# Altium footprint library Lib1.PcbLib: 70 footprints (part 2 of 5)
Each footprint in its own frame and in the unit in brackets; x right, y up, seen from the top. Pads: shape width x height; smd on the part's side, far side on the other; paste and mask are expansions set on the pad; w line width, h text height; cw(c..) or ccw(c..) is an arc to the next point about the centre after c.
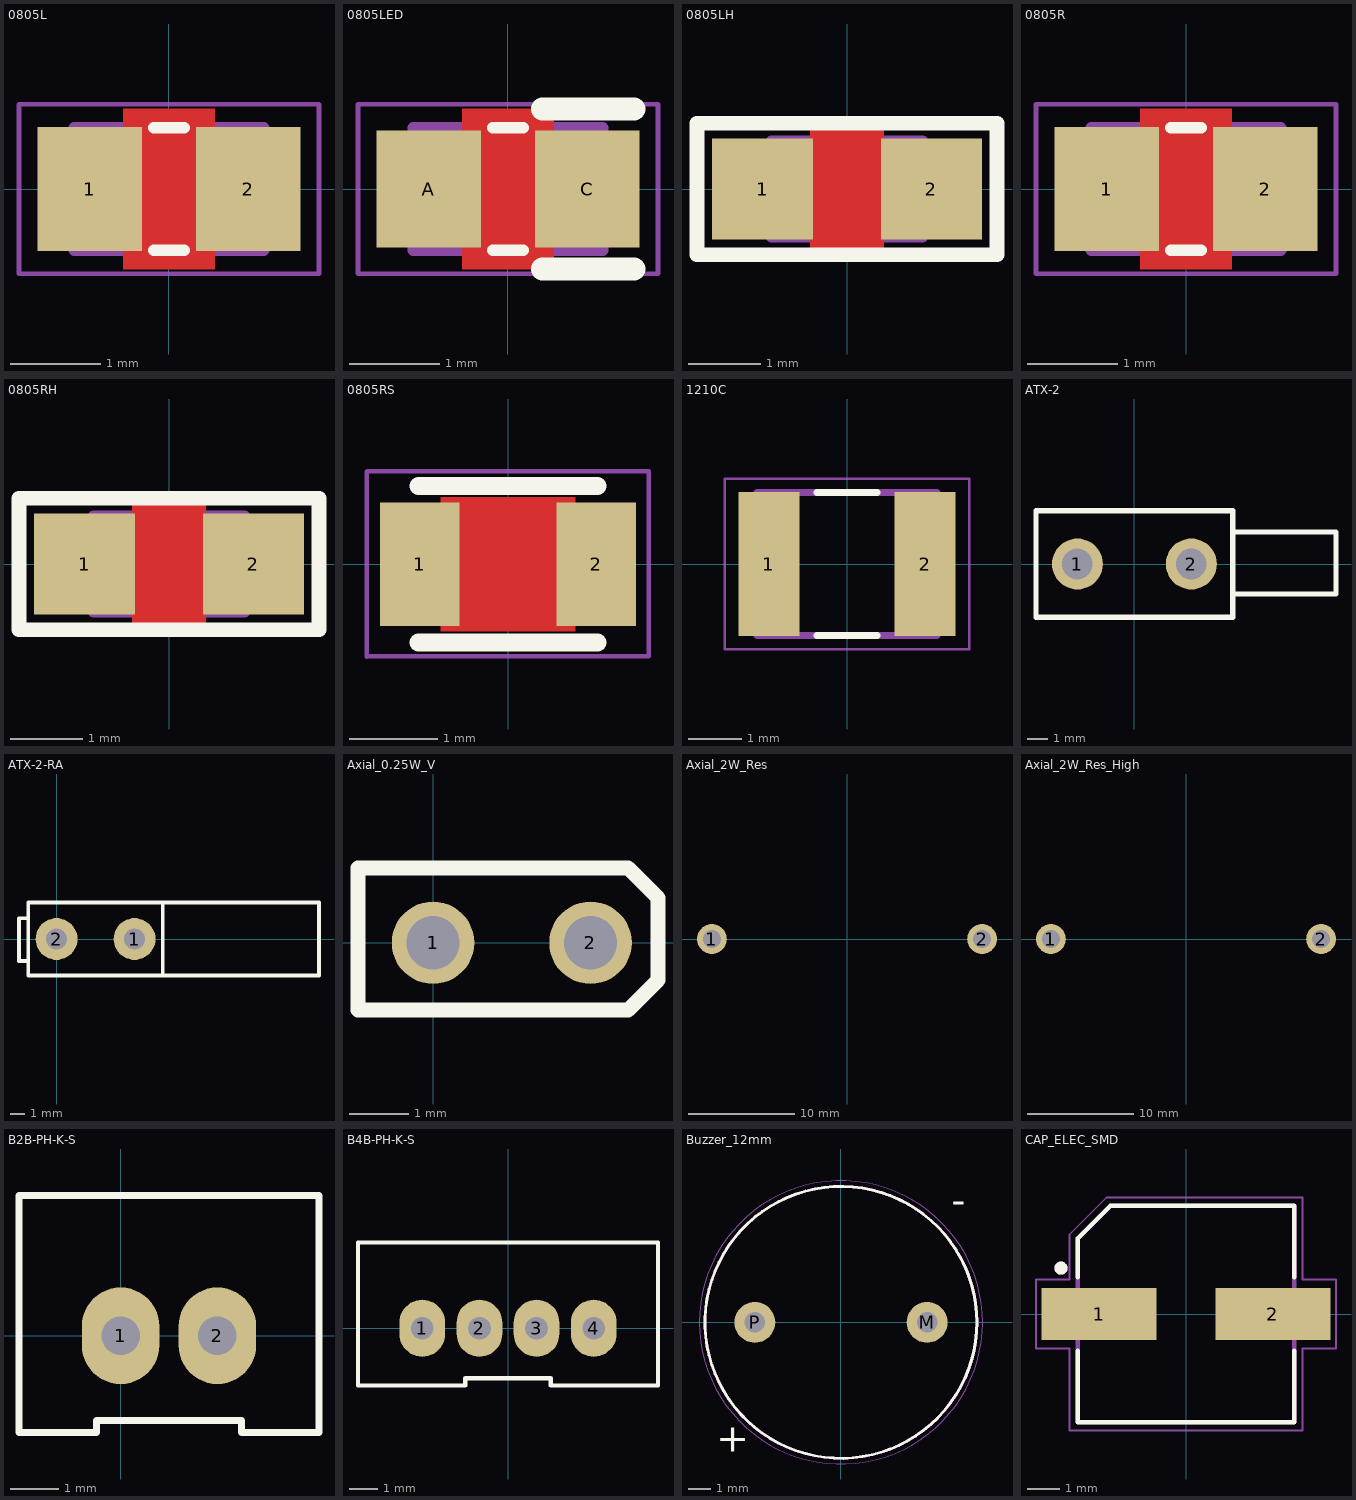
[diagram p1: the footprints below, top view; thin cyan lines are the x and y axes]

## 0805L [mm] "Standard 0805 Inductor"
pads (2):
  rect 1.16x1.38 smd: 1(-0.88,0) 2(0.88,0)
Top Layer:
  pour cut-out: 0.508,0.889 -0.508,0.889 -0.508,-0.889 0.508,-0.889
Top Overlay:
  lines w0.127: -0.17,-0.68 0.17,-0.68 ; -0.17,0.68 0.17,0.68
Mechanical 13:
  lines w0.127: -1.05,-0.68 1.05,-0.68 1.05,0.68 -1.05,0.68 -1.05,-0.68
Mechanical 15:
  lines w0.05: -1.665,-0.94 1.665,-0.94 1.665,0.94 -1.665,0.94 -1.665,-0.94
3D body "AIML-0805-1R0K-T.STEP": height 1.05, standoff 0, extent -1,-0.625 1,0.625

## 0805LED [mm]
pads (2):
  rect 1.16x1.3 smd: A(-0.88,0) C(0.88,0)
Top Layer:
  pour cut-out: 0.508,0.889 -0.508,0.889 -0.508,-0.889 0.508,-0.889
Top Overlay:
  lines w0.127: -0.17,-0.68 0.17,-0.68 ; -0.17,0.68 0.17,0.68
  lines w0.254: 0.381,-0.889 1.397,-0.889 ; 0.381,0.889 1.397,0.889
Mechanical 13:
  lines w0.127: -1.05,-0.68 1.05,-0.68 1.05,0.68 -1.05,0.68 -1.05,-0.68
Mechanical 15:
  lines w0.05: -1.665,-0.94 1.665,-0.94 1.665,0.94 -1.665,0.94 -1.665,-0.94
3D body "step_temp.STEP": height 0.73, standoff 0, extent -1.003,-0.622 1.003,0.622

## 0805LH [mm]
pads (2):
  rect 1.4x1.4 smd: 1(-1.17,0) 2(1.17,0)
Top Layer:
  pour cut-out: 0.508,0.889 -0.508,0.889 -0.508,-0.889 0.508,-0.889
Top Overlay:
  lines w0.203: -2.079,-0.909 -2.079,0.909 2.079,0.909 2.079,-0.909 -2.079,-0.909
Mechanical 13:
  lines w0.127: -1.05,-0.68 1.05,-0.68 1.05,0.68 -1.05,0.68 -1.05,-0.68
Mechanical 15:
  lines w0.05: -2.032,-0.94 2.032,-0.94 2.032,0.94 -2.032,0.94 -2.032,-0.94
3D body "AIML-0805-1R0K-T.STEP": height 1.05, standoff 0, extent -1,-0.625 1,0.625

## 0805R [mm] "Standard 0805 Resistor"
pads (2):
  rect 1.16x1.38 smd: 1(-0.88,0) 2(0.88,0)
Top Layer:
  pour cut-out: 0.508,0.889 -0.508,0.889 -0.508,-0.889 0.508,-0.889
Top Overlay:
  lines w0.127: -0.17,-0.68 0.17,-0.68 ; -0.17,0.68 0.17,0.68
Mechanical 13:
  lines w0.127: -1.05,-0.68 -1.05,0.68 1.05,0.68 1.05,-0.68 -1.05,-0.68
Mechanical 15:
  lines w0.05: -1.665,-0.94 -1.665,0.94 1.665,0.94 1.665,-0.94 -1.665,-0.94
3D body "step_temp.STEP": height 0.6, standoff 0, extent -1,-0.625 1,0.625

## 0805RH [mm] "0805 Resistor for hand soldering"
pads (2):
  rect 1.4x1.4 smd: 1(-1.17,0) 2(1.17,0)
Top Layer:
  pour cut-out: 0.508,0.889 -0.508,0.889 -0.508,-0.889 0.508,-0.889
Top Overlay:
  lines w0.203: -2.079,-0.909 2.079,-0.909 2.079,0.909 -2.079,0.909 -2.079,-0.909
Mechanical 13:
  lines w0.127: -1.05,-0.68 -1.05,0.68 1.05,0.68 1.05,-0.68 -1.05,-0.68
Mechanical 15:
  lines w0.05: -2.032,-0.94 -2.032,0.94 2.032,0.94 2.032,-0.94 -2.032,-0.94
3D body "step_temp.STEP": height 0.6, standoff 0, extent -1,-0.625 1,0.625

## 0805RS [mm] "Small hand-soldering 0805 Resistor footprint"
pads (2):
  rect 0.9x1.4 smd: 1(-1,0) 2(1,0)
Top Layer:
  pour cut-out: 0.762,0.762 0.762,-0.762 -0.762,-0.762 -0.762,0.762
Top Overlay:
  lines w0.203: -1.016,-0.889 1.016,-0.889 ; -1.016,0.889 1.016,0.889
Mechanical 15:
  lines w0.051: -1.6,-1.05 -1.6,1.05 ; -1.594,-1.044 1.594,-1.044 1.594,1.056 -1.594,1.056
3D body "User Library-0805 SMD Resistor.step": height 0.78, standoff 0, extent -1,-0.625 1,0.625

## 1210C [mm]
pads (2):
  rect 1.16x2.72 smd: 1(-1.475,0) 2(1.475,0)
Top Overlay:
  lines w0.127: -0.57,-1.35 0.57,-1.35 ; -0.57,1.35 0.57,1.35
Mechanical 13:
  lines w0.127: -1.7,-1.35 1.7,-1.35 1.7,1.35 -1.7,1.35 -1.7,-1.35
Mechanical 15:
  lines w0.05: -2.308,-1.608 2.308,-1.608 2.308,1.608 -2.308,1.608 -2.308,-1.608
3D body "step_temp.STEP": height 1.9, standoff 0, extent -1.6,-1.25 1.6,1.25

## ATX-2 [mm] "ATX 2 pin standing"
pads (2):
  round 2.5 hole 1.5: 1(-2.794,0) 2(2.794,0)
Top Overlay:
  lines w0.254: 4.825,-1.476 9.894,-1.476 9.894,1.575 4.825,1.575 ; -4.827,-2.616 4.825,-2.616 4.825,2.616 -4.827,2.616 -4.827,-2.616
3D body "0039293026.stp": height 3.5, standoff -12.8, extent -5.054,-3.1 5.946,3.1

## ATX-2-RA [mm] "ATX 2 pin right angle"
pads (2):
  round 3 hole 1.5: 1(5.588,0) 2(0,0)
Top Overlay:
  lines w0.254: -2.691,-1.575 -2.031,-1.575 ; -2.691,-1.572 -2.691,1.476 -2.031,1.476 ; 7.621,-2.616 18.8,-2.616 18.8,2.616 7.621,2.616 ; 7.621,-2.616 7.621,2.616 ; 7.621,-2.616 -2.031,-2.616 -2.031,2.616 7.621,2.616
3D body "0039301021--3DModel-STEP-1.STEP": height 11.4, standoff -4.36, extent -0.442,-2.7 19.493,3.097

## Axial_0.25W_V [mil] "0.25W Axial resistor standing"
pads (2):
  round 55 hole 35.43: 1(0,0) 2(105,0)
Top Overlay:
  lines w10: -50,-45 130,-45 150,-25 150,30 130,50 -50,50 -50,-45
3D body "axial 0.25W.STEP": height 250.14, standoff 2.11, extent -50.81,-51.18 50.81,51.18

## Axial_2W_Res [mm]
pads (2):
  round 2.8 hole 1.7: 1(-12.7,0) 2(12.7,0)
3D body "step_temp.STEP": height 6.98, standoff -32.89, extent -13.15,-3.5 13.15,3.5

## Axial_2W_Res_High [mm]
pads (2):
  round 2.8 hole 1.7: 1(-12.7,0) 2(12.7,0)
3D body "step_temp.STEP": height 11, standoff -28.89, extent -13.15,-3.5 13.15,3.5

## B2B-PH-K-S [mm]
pads (2):
  oval 1.6x2 hole 0.8: 1(0,0) 2(2,0)
Top Overlay:
  lines w0.15: -2.1,-2 -0.5,-2 -0.5,-1.75 2.5,-1.75 2.5,-2 4.1,-2 4.1,2.9 -2.1,2.9 -2.1,-2
3D body "User Library-b2b-ph-ks-1.x_t": height 6, standoff -3, extent -1.95,-1.75 3.95,2.75

## B4B-PH-K-S [mm]
pads (4):
  oval 1.6x2 hole 0.8: 1(-3,0) 2(-1,0) 3(1,0) 4(3,0)
Top Overlay:
  lines w0.15: -5.25,-2 -1.5,-2 -1.5,-1.75 1.5,-1.75 1.5,-2 5.25,-2 5.25,3 -5.25,3 -5.25,-2
3D body "User Library-b4b-ph-k-s.x_t": height 6, standoff -3, extent -4.95,-1.75 4.95,2.75

## Buzzer_12mm [mm]
pads (2):
  round 1.8 hole 0.9: M(3.8,0) P(-3.8,0)
Top Overlay:
  circle w0.127: c0,0 r6
  text "+" at -5.507,-5.717 h1.27
  text "-" at 5.507,5.717 h1.27
Mechanical 13:
  circle w0.127: c0,0 r6
Mechanical 15:
  circle w0.05: c0,0 r6.25
3D body "CUI_DEVICES_CEM-1212C.step": height 9.5, standoff -4.5, extent -5.989,-6 6,6

## CAP_ELEC_SMD [mm]
pads (2):
  rect 3.5x1.6 smd: 1(-2.65,0) 2(2.65,0)
Top Overlay:
  circle w0.2: c-3.81,1.397 r0.1
  lines w0.127: -3.3,-1.12 -3.3,-3.3 3.3,-3.3 3.3,-1.12 ; -3.3,1.12 -3.3,2.3 -2.3,3.3 3.3,3.3 3.3,1.12
Mechanical 13:
  circle w0.2: c-3.81,1.397 r0.1
  lines w0.127: -3.3,-3.3 -3.3,2.3 -2.3,3.3 3.3,3.3 3.3,-3.3 -3.3,-3.3
Mechanical 15:
  lines w0.05: -4.572,-1.05 -3.55,-1.05 -3.55,-3.55 3.55,-3.55 3.55,-1.05 4.572,-1.05 4.572,1.05 3.55,1.05 3.55,3.55 -2.425,3.55 -3.55,2.425 -3.55,1.05 -4.572,1.05 -4.572,-1.05
3D body "step_temp.STEP": height 7.7, standoff 0, extent -3.65,-3.3 3.65,3.3